# Altium schematic symbol library SCH - SWITCH - PANACONIC EVQ-PLHA15.Schlib: 1 symbol
Pins are listed as number, name and electrical type; pins without a type are passive.

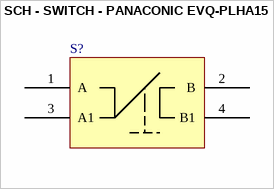
[diagram p0: symbol SCH - SWITCH - PANACONIC EVQ-PLHA15]

## SCH - SWITCH - PANACONIC EVQ-PLHA15
designator S?
footprint EVQPLHA15
pins: 1 A "Pad", 2 B "Pad", 3 A1 "Pad", 4 B1 "Pad"